# Altium schematic symbol library TI Voltage Controlled Oscillator.SchLib: 35 symbols
Pins are listed as number, name and electrical type; pins without a type are passive.

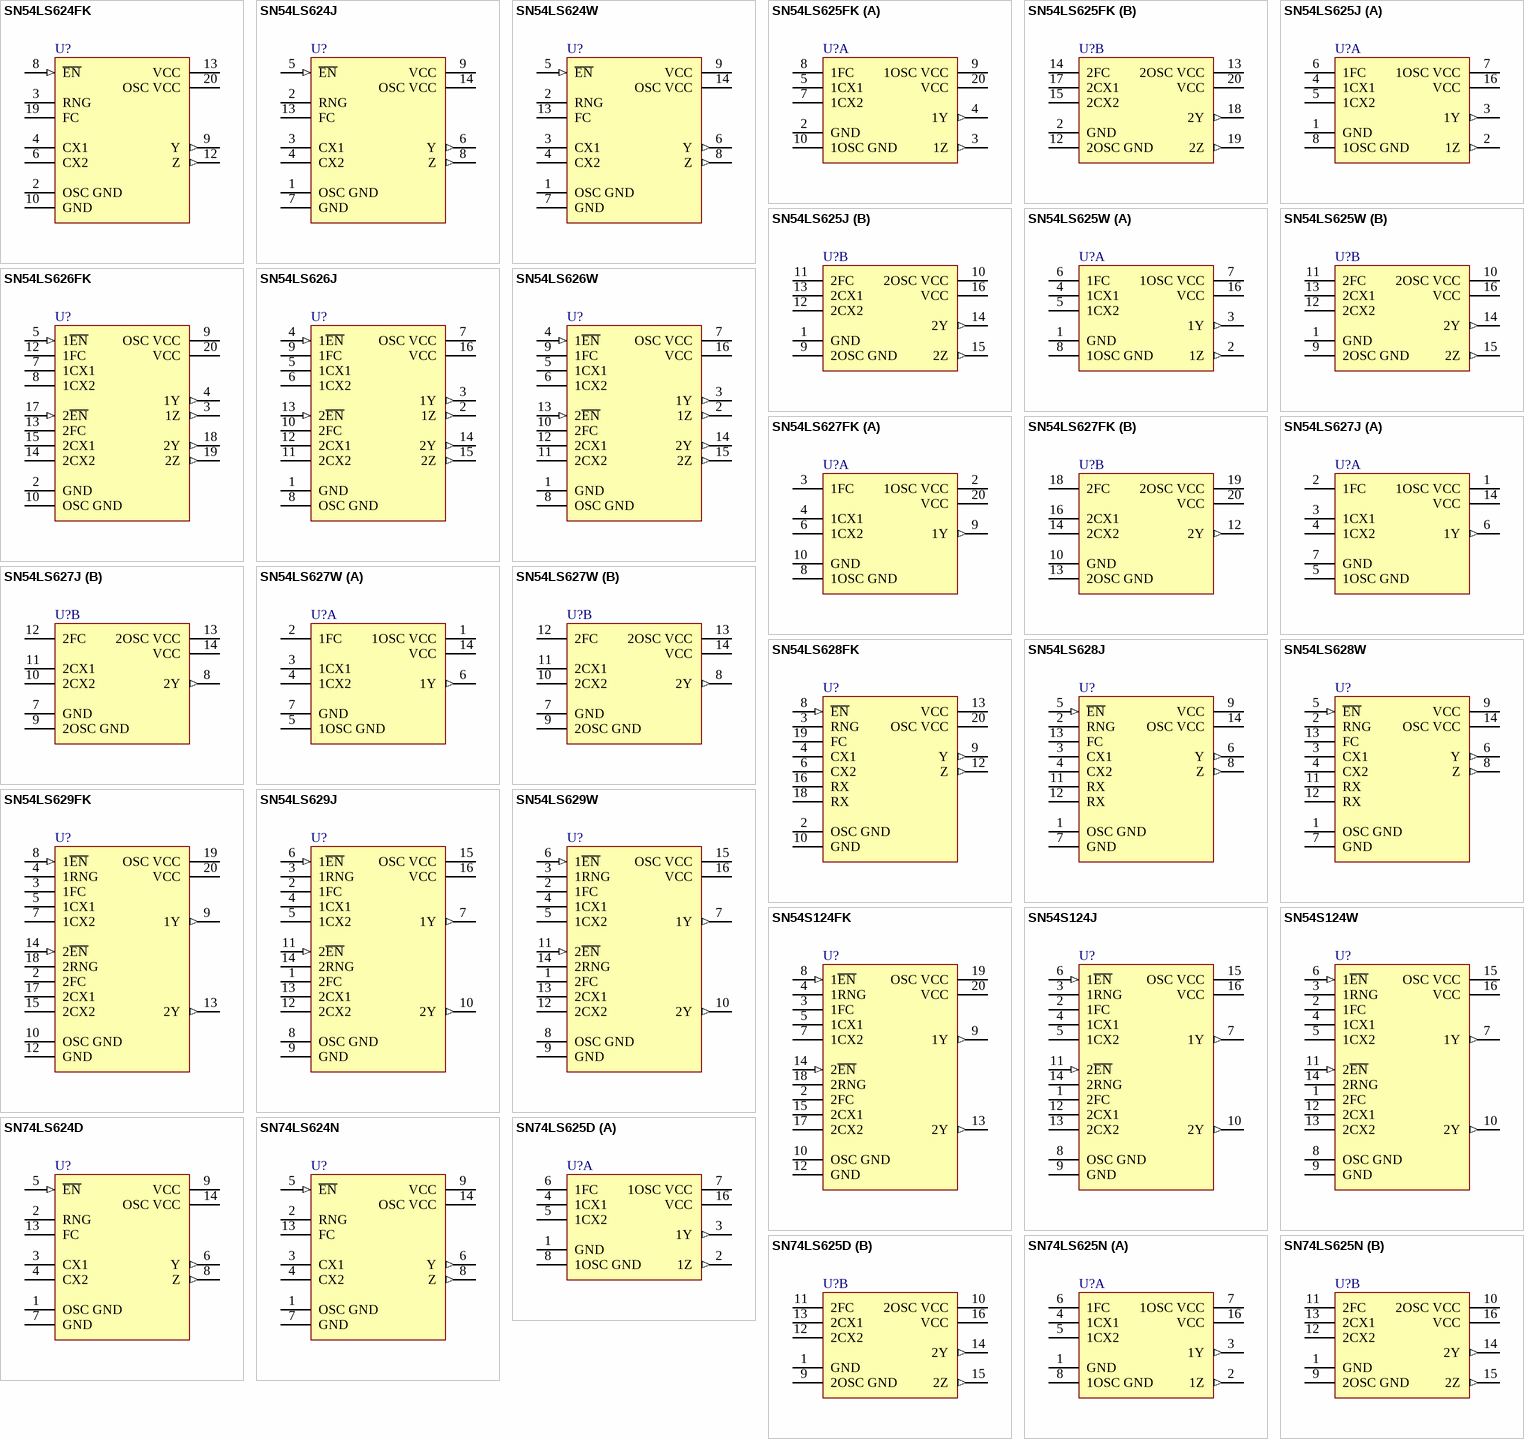
[diagram p0: symbols SN54LS624FK to SN74LS625N]

## SN54LS624FK
designator U?
Voltage-Controlled Oscillator; Note: Pins No 1, 5, 7,11 and 14-18 are NC (not internally connected) pins.; Published: 8-Jun-2000; LatestRevisionDate: 17-Jul-2002; LatestRevisionNote: Re-released for DXP Platform.; DatasheetVersion: Mar-1988; PackageVersion: 1998; PackageReference: FK020C; Publisher: Altium Limited; PackageDescription: Leadless Chip Carrier; 20 Terminals; Body 8.9 x 8.9 mm; ComponentLink1Description: Manufacturer Link; ComponentLink1URL: http://www.ti.com/; ComponentLink2Description: Datasheet; ComponentLink2URL: http://www-s.ti.com/sc/ds/sn74ls624.pdf
footprint FK020C (Leadless Chip Carrier; 20 Terminals; Body 8.9 x 8.9 mm)
signal-integrity model SN54LS624FK
pins: 2 OSC GND (power), 3 RNG, 4 CX1, 6 CX2, 8 ~{EN} (in), 9 Y (out), 10 GND (power), 12 Z (out), 13 VCC (power), 19 FC, 20 OSC VCC (power)

## SN54LS624J
designator U?
Voltage-Controlled Oscillator; Note: Pins 10, 11 and 12 are NC (not internally connected) pins.; Published: 8-Jun-2000; LatestRevisionDate: 04-Mar-2005; LatestRevisionNote: Stylized 3D Model Added.; DatasheetVersion: Mar-1988; PackageVersion: Jun-1999; PackageReference: J014C; Publisher: Altium Limited; PackageDescription: DIP; 14 Leads; Row Spacing 7.62 mm; Pitch 2.54 mm; ComponentLink1Description: Manufacturer Link; ComponentLink1URL: http://www.ti.com/; ComponentLink2Description: Datasheet; ComponentLink2URL: http://www-s.ti.com/sc/ds/sn74ls624.pdf
footprint J014C (DIP; 14 Leads; Row Spacing 7.62 mm; Pitch 2.54 mm)
3D model J014C (DIP; 14 Leads; Row Spacing 7.62 mm; Pitch 2.54 mm)
signal-integrity model SN54LS624J
pins: 1 OSC GND (power), 2 RNG, 3 CX1, 4 CX2, 5 ~{EN} (in), 6 Y (out), 7 GND (power), 8 Z (out), 9 VCC (power), 13 FC, 14 OSC VCC (power)

## SN54LS624W
designator U?
Voltage-Controlled Oscillator; Note: Pins 10, 11 and 12 are NC (not internally connected) pins.; Published: 8-Jun-2000; LatestRevisionDate: 04-Mar-2005; LatestRevisionNote: Stylized 3D Model Added.; DatasheetVersion: Mar-1988; PackageVersion: Jan-1995; PackageReference: W014; Publisher: Altium Limited; PackageDescription: DFP; 14 Leads; Body 9.9 x 6.6 mm (LxW max); Pitch 1.27 mm; Code_JEDEC: MO-092-AB; ComponentLink1Description: Manufacturer Link; ComponentLink1URL: http://www.ti.com/; ComponentLink2Description: Datasheet; ComponentLink2URL: http://www-s.ti.com/sc/ds/sn74ls624.pdf
footprint W014 (DFP; 14 Leads; Body 9.9 x 6.6 mm (LxW max); Pitch 1.27 mm)
3D model W014 (DFP; 14 Leads; Body 9.9 x 6.6 mm (LxW max); Pitch 1.27 mm)
signal-integrity model SN54LS624W
pins: 1 OSC GND (power), 2 RNG, 3 CX1, 4 CX2, 5 ~{EN} (in), 6 Y (out), 7 GND (power), 8 Z (out), 9 VCC (power), 13 FC, 14 OSC VCC (power)

## SN54LS625FK
designator U?
Voltage-Controlled Oscillator; Note: Pins No 1,6,11 and 16 are NC (not internally connected) pins.; Published: 8-Jun-2000; LatestRevisionDate: 17-Jul-2002; LatestRevisionNote: Re-released for DXP Platform.; DatasheetVersion: Mar-1988; PackageVersion: 1998; PackageReference: FK020C; Publisher: Altium Limited; PackageDescription: Leadless Chip Carrier; 20 Terminals; Body 8.9 x 8.9 mm; ComponentLink1Description: Manufacturer Link; ComponentLink1URL: http://www.ti.com/; ComponentLink2Description: Datasheet; ComponentLink2URL: http://www-s.ti.com/sc/ds/sn74ls625.pdf
footprint FK020C (Leadless Chip Carrier; 20 Terminals; Body 8.9 x 8.9 mm)
signal-integrity model SN54LS625FK
pins on every part: 2 GND (power), 20 VCC (power)
part A pins: 3 1Z (out), 4 1Y (out), 5 1CX1, 7 1CX2, 8 1FC, 9 1OSC VCC (power), 10 1OSC GND (power)
part B pins: 12 2OSC GND (power), 13 2OSC VCC (power), 14 2FC, 15 2CX2, 17 2CX1, 18 2Y (out), 19 2Z (out)

## SN54LS625J
designator U?
Voltage-Controlled Oscillator; Published: 8-Jun-2000; LatestRevisionDate: 04-Mar-2005; LatestRevisionNote: Stylized 3D Model Added.; DatasheetVersion: Mar-1988; PackageVersion: Jun-1999; PackageReference: J016C; Publisher: Altium Limited; PackageDescription: DIP; 16 Leads; Row Spacing 7.62 mm; Pitch 2.54 mm; ComponentLink1Description: Manufacturer Link; ComponentLink1URL: http://www.ti.com/; ComponentLink2Description: Datasheet; ComponentLink2URL: http://www-s.ti.com/sc/ds/sn74ls625.pdf
footprint J016C (DIP; 16 Leads; Row Spacing 7.62 mm; Pitch 2.54 mm)
3D model J016C (DIP; 16 Leads; Row Spacing 7.62 mm; Pitch 2.54 mm)
signal-integrity model SN54LS625J
pins on every part: 1 GND (power), 16 VCC (power)
part A pins: 2 1Z (out), 3 1Y (out), 4 1CX1, 5 1CX2, 6 1FC, 7 1OSC VCC (power), 8 1OSC GND (power)
part B pins: 9 2OSC GND (power), 10 2OSC VCC (power), 11 2FC, 12 2CX2, 13 2CX1, 14 2Y (out), 15 2Z (out)

## SN54LS625W
designator U?
Voltage-Controlled Oscillator; Published: 8-Jun-2000; LatestRevisionDate: 04-Mar-2005; LatestRevisionNote: Stylized 3D Model Added.; DatasheetVersion: Mar-1988; PackageVersion: Jan-1995; PackageReference: W016; Publisher: Altium Limited; PackageDescription: DFP; 16 Leads; Body 10.9 x 7.2 mm (LxW max); Pitch 1.27 mm; Code_JEDEC: MO-092-AC; ComponentLink1Description: Manufacturer Link; ComponentLink1URL: http://www.ti.com/; ComponentLink2Description: Datasheet; ComponentLink2URL: http://www-s.ti.com/sc/ds/sn74ls625.pdf
footprint W016 (DFP; 16 Leads; Body 10.9 x 7.2 mm (LxW max); Pitch 1.27 mm)
3D model W016 (DFP; 16 Leads; Body 10.9 x 7.2 mm (LxW max); Pitch 1.27 mm)
signal-integrity model SN54LS625W
pins on every part: 1 GND (power), 16 VCC (power)
part A pins: 2 1Z (out), 3 1Y (out), 4 1CX1, 5 1CX2, 6 1FC, 7 1OSC VCC (power), 8 1OSC GND (power)
part B pins: 9 2OSC GND (power), 10 2OSC VCC (power), 11 2FC, 12 2CX2, 13 2CX1, 14 2Y (out), 15 2Z (out)

## SN54LS626FK
designator U?
Voltage-Controlled Oscillator; Note: Pins No 1,6,11 and 16 are NC (not internally connected) pins.; Published: 8-Jun-2000; LatestRevisionDate: 17-Jul-2002; LatestRevisionNote: Re-released for DXP Platform.; DatasheetVersion: Mar-1988; PackageVersion: 1998; PackageReference: FK020C; Publisher: Altium Limited; PackageDescription: Leadless Chip Carrier; 20 Terminals; Body 8.9 x 8.9 mm; ComponentLink1Description: Manufacturer Link; ComponentLink1URL: http://www.ti.com/; ComponentLink2Description: Datasheet; ComponentLink2URL: http://www-s.ti.com/sc/ds/sn74ls626.pdf
footprint FK020C (Leadless Chip Carrier; 20 Terminals; Body 8.9 x 8.9 mm)
signal-integrity model SN54LS626FK
pins: 2 GND (power), 3 1Z (out), 4 1Y (out), 5 1~{EN} (in), 7 1CX1, 8 1CX2, 9 OSC VCC (power), 10 OSC GND (power), 12 1FC, 13 2FC, 14 2CX2, 15 2CX1, 17 2~{EN} (in), 18 2Y (out), 19 2Z (out), 20 VCC (power)

## SN54LS626J
designator U?
Voltage-Controlled Oscillator; Published: 8-Jun-2000; LatestRevisionDate: 04-Mar-2005; LatestRevisionNote: Stylized 3D Model Added.; DatasheetVersion: Mar-1988; PackageVersion: Jun-1999; PackageReference: J016C; Publisher: Altium Limited; PackageDescription: DIP; 16 Leads; Row Spacing 7.62 mm; Pitch 2.54 mm; ComponentLink1Description: Manufacturer Link; ComponentLink1URL: http://www.ti.com/; ComponentLink2Description: Datasheet; ComponentLink2URL: http://www-s.ti.com/sc/ds/sn74ls626.pdf
footprint J016C (DIP; 16 Leads; Row Spacing 7.62 mm; Pitch 2.54 mm)
3D model J016C (DIP; 16 Leads; Row Spacing 7.62 mm; Pitch 2.54 mm)
signal-integrity model SN54LS626J
pins: 1 GND (power), 2 1Z (out), 3 1Y (out), 4 1~{EN} (in), 5 1CX1, 6 1CX2, 7 OSC VCC (power), 8 OSC GND (power), 9 1FC, 10 2FC, 11 2CX2, 12 2CX1, 13 2~{EN} (in), 14 2Y (out), 15 2Z (out), 16 VCC (power)

## SN54LS626W
designator U?
Voltage-Controlled Oscillator; Published: 8-Jun-2000; LatestRevisionDate: 04-Mar-2005; LatestRevisionNote: Stylized 3D Model Added.; DatasheetVersion: Mar-1988; PackageVersion: Jan-1995; PackageReference: W016; Publisher: Altium Limited; PackageDescription: DFP; 16 Leads; Body 10.9 x 7.2 mm (LxW max); Pitch 1.27 mm; Code_JEDEC: MO-092-AC; ComponentLink1Description: Manufacturer Link; ComponentLink1URL: http://www.ti.com/; ComponentLink2Description: Datasheet; ComponentLink2URL: http://www-s.ti.com/sc/ds/sn74ls626.pdf
footprint W016 (DFP; 16 Leads; Body 10.9 x 7.2 mm (LxW max); Pitch 1.27 mm)
3D model W016 (DFP; 16 Leads; Body 10.9 x 7.2 mm (LxW max); Pitch 1.27 mm)
signal-integrity model SN54LS626W
pins: 1 GND (power), 2 1Z (out), 3 1Y (out), 4 1~{EN} (in), 5 1CX1, 6 1CX2, 7 OSC VCC (power), 8 OSC GND (power), 9 1FC, 10 2FC, 11 2CX2, 12 2CX1, 13 2~{EN} (in), 14 2Y (out), 15 2Z (out), 16 VCC (power)

## SN54LS627FK
designator U?
Voltage-Controlled Oscillator; Note: Pins No 1,5,7,11, 15 and 17are NC (not internally connected) pins.; Published: 8-Jun-2000; LatestRevisionDate: 17-Jul-2002; LatestRevisionNote: Re-released for DXP Platform.; DatasheetVersion: Mar-1988; PackageVersion: 1998; PackageReference: FK020C; Publisher: Altium Limited; PackageDescription: Leadless Chip Carrier; 20 Terminals; Body 8.9 x 8.9 mm; ComponentLink1Description: Manufacturer Link; ComponentLink1URL: http://www.ti.com/; ComponentLink2Description: Datasheet; ComponentLink2URL: http://www-s.ti.com/sc/ds/sn74ls627.pdf
footprint FK020C (Leadless Chip Carrier; 20 Terminals; Body 8.9 x 8.9 mm)
signal-integrity model SN54LS627FK
pins on every part: 10 GND (power), 20 VCC (power)
part A pins: 2 1OSC VCC (power), 3 1FC, 4 1CX1, 6 1CX2, 8 1OSC GND (power), 9 1Y (out)
part B pins: 12 2Y (out), 13 2OSC GND (power), 14 2CX2, 16 2CX1, 18 2FC, 19 2OSC VCC (power)

## SN54LS627J
designator U?
Voltage-Controlled Oscillator; Published: 8-Jun-2000; LatestRevisionDate: 04-Mar-2005; LatestRevisionNote: Stylized 3D Model Added.; DatasheetVersion: Mar-1988; PackageVersion: Jun-1999; PackageReference: J014C; Publisher: Altium Limited; PackageDescription: DIP; 14 Leads; Row Spacing 7.62 mm; Pitch 2.54 mm; ComponentLink1Description: Manufacturer Link; ComponentLink1URL: http://www.ti.com/; ComponentLink2Description: Datasheet; ComponentLink2URL: http://www-s.ti.com/sc/ds/sn74ls627.pdf
footprint J014C (DIP; 14 Leads; Row Spacing 7.62 mm; Pitch 2.54 mm)
3D model J014C (DIP; 14 Leads; Row Spacing 7.62 mm; Pitch 2.54 mm)
signal-integrity model SN54LS627J
pins on every part: 7 GND (power), 14 VCC (power)
part A pins: 1 1OSC VCC (power), 2 1FC, 3 1CX1, 4 1CX2, 5 1OSC GND (power), 6 1Y (out)
part B pins: 8 2Y (out), 9 2OSC GND (power), 10 2CX2, 11 2CX1, 12 2FC, 13 2OSC VCC (power)

## SN54LS627W
designator U?
Voltage-Controlled Oscillator; Published: 8-Jun-2000; LatestRevisionDate: 04-Mar-2005; LatestRevisionNote: Stylized 3D Model Added.; DatasheetVersion: Mar-1988; PackageVersion: Jan-1995; PackageReference: W014; Publisher: Altium Limited; PackageDescription: DFP; 14 Leads; Body 9.9 x 6.6 mm (LxW max); Pitch 1.27 mm; Code_JEDEC: MO-092-AB; ComponentLink1Description: Manufacturer Link; ComponentLink1URL: http://www.ti.com/; ComponentLink2Description: Datasheet; ComponentLink2URL: http://www-s.ti.com/sc/ds/sn74ls627.pdf
footprint W014 (DFP; 14 Leads; Body 9.9 x 6.6 mm (LxW max); Pitch 1.27 mm)
3D model W014 (DFP; 14 Leads; Body 9.9 x 6.6 mm (LxW max); Pitch 1.27 mm)
signal-integrity model SN54LS627W
pins on every part: 7 GND (power), 14 VCC (power)
part A pins: 1 1OSC VCC (power), 2 1FC, 3 1CX1, 4 1CX2, 5 1OSC GND (power), 6 1Y (out)
part B pins: 8 2Y (out), 9 2OSC GND (power), 10 2CX2, 11 2CX1, 12 2FC, 13 2OSC VCC (power)

## SN54LS628FK
designator U?
Voltage-Controlled Oscillator; Note: Pins No 1,5,7,11,14,15 and 17are NC (not internally connected) pins.; Published: 8-Jun-2000; LatestRevisionDate: 17-Jul-2002; LatestRevisionNote: Re-released for DXP Platform.; DatasheetVersion: Mar-1988; PackageVersion: 1998; PackageReference: FK020C; Publisher: Altium Limited; PackageDescription: Leadless Chip Carrier; 20 Terminals; Body 8.9 x 8.9 mm; ComponentLink1Description: Manufacturer Link; ComponentLink1URL: http://www.ti.com/; ComponentLink2Description: Datasheet; ComponentLink2URL: http://www-s.ti.com/sc/ds/sn54ls628.pdf
footprint FK020C (Leadless Chip Carrier; 20 Terminals; Body 8.9 x 8.9 mm)
signal-integrity model SN54LS628FK
pins: 2 OSC GND (power), 3 RNG, 4 CX1, 6 CX2, 8 ~{EN} (in), 9 Y (out), 10 GND (power), 12 Z (out), 13 VCC (power), 16 RX, 18 RX, 19 FC, 20 OSC VCC (power)

## SN54LS628J
designator U?
Voltage-Controlled Oscillator; Published: 8-Jun-2000; LatestRevisionDate: 04-Mar-2005; LatestRevisionNote: Stylized 3D Model Added.; DatasheetVersion: Mar-1988; PackageVersion: Jun-1999; PackageReference: J014C; Publisher: Altium Limited; PackageDescription: DIP; 14 Leads; Row Spacing 7.62 mm; Pitch 2.54 mm; ComponentLink1Description: Manufacturer Link; ComponentLink1URL: http://www.ti.com/; ComponentLink2Description: Datasheet; ComponentLink2URL: http://www-s.ti.com/sc/ds/sn54ls628.pdf
footprint J014C (DIP; 14 Leads; Row Spacing 7.62 mm; Pitch 2.54 mm)
3D model J014C (DIP; 14 Leads; Row Spacing 7.62 mm; Pitch 2.54 mm)
signal-integrity model SN54LS628J
pins: 1 OSC GND (power), 2 RNG, 3 CX1, 4 CX2, 5 ~{EN} (in), 6 Y (out), 7 GND (power), 8 Z (out), 9 VCC (power), 11 RX, 12 RX, 13 FC, 14 OSC VCC (power)

## SN54LS628W
designator U?
Voltage-Controlled Oscillator; Published: 8-Jun-2000; LatestRevisionDate: 04-Mar-2005; LatestRevisionNote: Stylized 3D Model Added.; DatasheetVersion: Mar-1988; PackageVersion: Jan-1995; PackageReference: W014; Publisher: Altium Limited; PackageDescription: DFP; 14 Leads; Body 9.9 x 6.6 mm (LxW max); Pitch 1.27 mm; Code_JEDEC: MO-092-AB; ComponentLink1Description: Manufacturer Link; ComponentLink1URL: http://www.ti.com/; ComponentLink2Description: Datasheet; ComponentLink2URL: http://www-s.ti.com/sc/ds/sn54ls628.pdf
footprint W014 (DFP; 14 Leads; Body 9.9 x 6.6 mm (LxW max); Pitch 1.27 mm)
3D model W014 (DFP; 14 Leads; Body 9.9 x 6.6 mm (LxW max); Pitch 1.27 mm)
signal-integrity model SN54LS628W
pins: 1 OSC GND (power), 2 RNG, 3 CX1, 4 CX2, 5 ~{EN} (in), 6 Y (out), 7 GND (power), 8 Z (out), 9 VCC (power), 11 RX, 12 RX, 13 FC, 14 OSC VCC (power)

## SN54LS629FK
designator U?
Voltage-Controlled Oscillator; Note: Pins No 1, 6, 11 and 16 are NC (not internally connected) pins.; Published: 8-Jun-2000; LatestRevisionDate: 17-Jul-2002; LatestRevisionNote: Re-released for DXP Platform.; DatasheetVersion: Mar-1988; PackageVersion: 1998; PackageReference: FK020C; Publisher: Altium Limited; PackageDescription: Leadless Chip Carrier; 20 Terminals; Body 8.9 x 8.9 mm; ComponentLink1Description: Manufacturer Link; ComponentLink1URL: http://www.ti.com/; ComponentLink2Description: Datasheet; ComponentLink2URL: http://www-s.ti.com/sc/ds/sn54ls629.pdf
footprint FK020C (Leadless Chip Carrier; 20 Terminals; Body 8.9 x 8.9 mm)
signal-integrity model SN54LS629FK
pins: 2 2FC, 3 1FC, 4 1RNG, 5 1CX1, 7 1CX2, 8 1~{EN} (in), 9 1Y (out), 10 OSC GND (power), 12 GND (power), 13 2Y (out), 14 2~{EN} (in), 15 2CX2, 17 2CX1, 18 2RNG, 19 OSC VCC (power), 20 VCC (power)

## SN54LS629J
designator U?
Voltage-Controlled Oscillator; Published: 8-Jun-2000; LatestRevisionDate: 04-Mar-2005; LatestRevisionNote: Stylized 3D Model Added.; DatasheetVersion: Mar-1988; PackageVersion: Jun-1999; PackageReference: J016C; Publisher: Altium Limited; PackageDescription: DIP; 16 Leads; Row Spacing 7.62 mm; Pitch 2.54 mm; ComponentLink1Description: Manufacturer Link; ComponentLink1URL: http://www.ti.com/; ComponentLink2Description: Datasheet; ComponentLink2URL: http://www-s.ti.com/sc/ds/sn54ls629.pdf
footprint J016C (DIP; 16 Leads; Row Spacing 7.62 mm; Pitch 2.54 mm)
3D model J016C (DIP; 16 Leads; Row Spacing 7.62 mm; Pitch 2.54 mm)
signal-integrity model SN54LS629J
pins: 1 2FC, 2 1FC, 3 1RNG, 4 1CX1, 5 1CX2, 6 1~{EN} (in), 7 1Y (out), 8 OSC GND (power), 9 GND (power), 10 2Y (out), 11 2~{EN} (in), 12 2CX2, 13 2CX1, 14 2RNG, 15 OSC VCC (power), 16 VCC (power)

## SN54LS629W
designator U?
Voltage-Controlled Oscillator; Published: 8-Jun-2000; LatestRevisionDate: 04-Mar-2005; LatestRevisionNote: Stylized 3D Model Added.; DatasheetVersion: Mar-1988; PackageVersion: Jan-1995; PackageReference: W016; Publisher: Altium Limited; PackageDescription: DFP; 16 Leads; Body 10.9 x 7.2 mm (LxW max); Pitch 1.27 mm; Code_JEDEC: MO-092-AC; ComponentLink1Description: Manufacturer Link; ComponentLink1URL: http://www.ti.com/; ComponentLink2Description: Datasheet; ComponentLink2URL: http://www-s.ti.com/sc/ds/sn54ls629.pdf
footprint W016 (DFP; 16 Leads; Body 10.9 x 7.2 mm (LxW max); Pitch 1.27 mm)
3D model W016 (DFP; 16 Leads; Body 10.9 x 7.2 mm (LxW max); Pitch 1.27 mm)
signal-integrity model SN54LS629W
pins: 1 2FC, 2 1FC, 3 1RNG, 4 1CX1, 5 1CX2, 6 1~{EN} (in), 7 1Y (out), 8 OSC GND (power), 9 GND (power), 10 2Y (out), 11 2~{EN} (in), 12 2CX2, 13 2CX1, 14 2RNG, 15 OSC VCC (power), 16 VCC (power)

## SN54S124FK
designator U?
Dual Voltage-Controlled Oscillator; Note: Pins 1, 6, 11 and 16 are NC (not internally connected) pins.; Published: 8-Jun-2000; LatestRevisionDate: 17-Jul-2002; LatestRevisionNote: Re-released for DXP Platform.; DatasheetVersion: Mar-1988; PackageVersion: 1998; PackageReference: FK020C; Publisher: Altium Limited; PackageDescription: Leadless Chip Carrier; 20 Terminals; Body 8.9 x 8.9 mm; ComponentLink1Description: Manufacturer Link; ComponentLink1URL: http://www.ti.com/; ComponentLink2Description: Datasheet; ComponentLink2URL: http://www-s.ti.com/sc/ds/sn54s124.pdf
footprint FK020C (Leadless Chip Carrier; 20 Terminals; Body 8.9 x 8.9 mm)
signal-integrity model SN54S124FK
pins: 2 2FC, 3 1FC, 4 1RNG, 5 1CX1, 7 1CX2, 8 1~{EN} (in), 9 1Y (out), 10 OSC GND (power), 12 GND (power), 13 2Y (out), 14 2~{EN} (in), 15 2CX1, 17 2CX2, 18 2RNG, 19 OSC VCC (power), 20 VCC (power)

## SN54S124J
designator U?
Dual Voltage-Controlled Oscillator; Published: 8-Jun-2000; LatestRevisionDate: 04-Mar-2005; LatestRevisionNote: Stylized 3D Model Added.; DatasheetVersion: Mar-1988; PackageVersion: Jun-1999; PackageReference: J016C; Publisher: Altium Limited; PackageDescription: DIP; 16 Leads; Row Spacing 7.62 mm; Pitch 2.54 mm; ComponentLink1Description: Manufacturer Link; ComponentLink1URL: http://www.ti.com/; ComponentLink2Description: Datasheet; ComponentLink2URL: http://www-s.ti.com/sc/ds/sn54s124.pdf
footprint J016C (DIP; 16 Leads; Row Spacing 7.62 mm; Pitch 2.54 mm)
3D model J016C (DIP; 16 Leads; Row Spacing 7.62 mm; Pitch 2.54 mm)
signal-integrity model SN54S124J
pins: 1 2FC, 2 1FC, 3 1RNG, 4 1CX1, 5 1CX2, 6 1~{EN} (in), 7 1Y (out), 8 OSC GND (power), 9 GND (power), 10 2Y (out), 11 2~{EN} (in), 12 2CX1, 13 2CX2, 14 2RNG, 15 OSC VCC (power), 16 VCC (power)

## SN54S124W
designator U?
Dual Voltage-Controlled Oscillator; Published: 8-Jun-2000; LatestRevisionDate: 04-Mar-2005; LatestRevisionNote: Stylized 3D Model Added.; DatasheetVersion: Mar-1988; PackageVersion: Jan-1995; PackageReference: W016; Publisher: Altium Limited; PackageDescription: DFP; 16 Leads; Body 10.9 x 7.2 mm (LxW max); Pitch 1.27 mm; Code_JEDEC: MO-092-AC; ComponentLink1Description: Manufacturer Link; ComponentLink1URL: http://www.ti.com/; ComponentLink2Description: Datasheet; ComponentLink2URL: http://www-s.ti.com/sc/ds/sn54s124.pdf
footprint W016 (DFP; 16 Leads; Body 10.9 x 7.2 mm (LxW max); Pitch 1.27 mm)
3D model W016 (DFP; 16 Leads; Body 10.9 x 7.2 mm (LxW max); Pitch 1.27 mm)
signal-integrity model SN54S124W
pins: 1 2FC, 2 1FC, 3 1RNG, 4 1CX1, 5 1CX2, 6 1~{EN} (in), 7 1Y (out), 8 OSC GND (power), 9 GND (power), 10 2Y (out), 11 2~{EN} (in), 12 2CX1, 13 2CX2, 14 2RNG, 15 OSC VCC (power), 16 VCC (power)

## SN74LS624D
designator U?
Voltage-Controlled Oscillator; Note: Pins 10, 11 and 12 are NC (not internally connected) pins.; Published: 8-Jun-2000; LatestRevisionDate: 13-Apr-2006; LatestRevisionNote: IPC-7351 Footprint Added.; DatasheetVersion: Mar-1988; PackageVersion: Jan-1998; PackageReference: D014; Publisher: Altium Limited; PackageDescription: 14-Pin Small Outline Integrated Circuit 1.27 mm Pitch; Code_IPC: SOIC127P600-14; ComponentLink1Description: Manufacturer Link; ComponentLink1URL: http://www.ti.com/; ComponentLink2Description: Datasheet; ComponentLink2URL: http://www-s.ti.com/sc/ds/sn74ls624.pdf
footprint D014_N (SOIC, 14-Leads, Body 8.7x3.9mm, Pitch 1.27mm, IPC Medium Density)
footprint D014_L (SOIC, 14-Leads, Body 8.7x3.9mm, Pitch 1.27mm, IPC High Density)
footprint D014_M (SOIC, 14-Leads, Body 8.7x3.9mm, Pitch 1.27mm, IPC Low Density)
3D model D014 (14-Pin Small Outline Integrated Circuit 1.27 mm Pitch)
signal-integrity model SN74LS624D
pins: 1 OSC GND (power), 2 RNG, 3 CX1, 4 CX2, 5 ~{EN} (in), 6 Y (out), 7 GND (power), 8 Z (out), 9 VCC (power), 13 FC, 14 OSC VCC (power)

## SN74LS624N
designator U?
Voltage-Controlled Oscillator; Note: Pins 10, 11 and 12 are NC (not internally connected) pins.; Published: 8-Jun-2000; LatestRevisionDate: 04-Mar-2005; LatestRevisionNote: Stylized 3D Model Added.; DatasheetVersion: Mar-1988; PackageVersion: Oct-1995; PackageReference: N014C; Publisher: Altium Limited; PackageDescription: DIP; 14 Leads; Row Spacing 7.62 mm; Pitch 2.54 mm; ComponentLink1Description: Manufacturer Link; ComponentLink1URL: http://www.ti.com/; ComponentLink2Description: Datasheet; ComponentLink2URL: http://www-s.ti.com/sc/ds/sn74ls624.pdf
footprint N014C (DIP; 14 Leads; Row Spacing 7.62 mm; Pitch 2.54 mm)
3D model N014C (DIP; 14 Leads; Row Spacing 7.62 mm; Pitch 2.54 mm)
signal-integrity model SN74LS624N
pins: 1 OSC GND (power), 2 RNG, 3 CX1, 4 CX2, 5 ~{EN} (in), 6 Y (out), 7 GND (power), 8 Z (out), 9 VCC (power), 13 FC, 14 OSC VCC (power)

## SN74LS625D
designator U?
Voltage-Controlled Oscillator; Published: 8-Jun-2000; LatestRevisionDate: 13-Apr-2006; LatestRevisionNote: IPC-7351 Footprint Added.; DatasheetVersion: Mar-1988; PackageVersion: Jan-1998; PackageReference: D016; Publisher: Altium Limited; PackageDescription: 16-Pin Small Outline Integrated Circuit 1.27 mm Pitch; Code_IPC: SOIC127P600-16; ComponentLink1Description: Manufacturer Link; ComponentLink1URL: http://www.ti.com/; ComponentLink2Description: Datasheet; ComponentLink2URL: http://www-s.ti.com/sc/ds/sn74ls625.pdf
footprint D016_N (SOIC, 16-Leads, Body 9.9x3.9mm, Pitch 1.27mm, IPC Medium Density)
footprint D016_L (SOIC, 16-Leads, Body 9.9x3.9mm, Pitch 1.27mm, IPC High Density)
footprint D016_M (SOIC, 16-Leads, Body 9.9x3.9mm, Pitch 1.27mm, IPC Low Density)
3D model D016 (16-Pin Small Outline Integrated Circuit 1.27 mm Pitch)
signal-integrity model SN74LS625D
pins on every part: 1 GND (power), 16 VCC (power)
part A pins: 2 1Z (out), 3 1Y (out), 4 1CX1, 5 1CX2, 6 1FC, 7 1OSC VCC (power), 8 1OSC GND (power)
part B pins: 9 2OSC GND (power), 10 2OSC VCC (power), 11 2FC, 12 2CX2, 13 2CX1, 14 2Y (out), 15 2Z (out)

## SN74LS625N
designator U?
Voltage-Controlled Oscillator; ComponentAvailability: Obsolete; Published: 8-Jun-2000; LatestRevisionDate: 04-Mar-2005; LatestRevisionNote: Stylized 3D Model Added.; DatasheetVersion: Mar-1988; PackageVersion: Oct-1995; PackageReference: N016C; Publisher: Altium Limited; PackageDescription: DIP; 16 Leads; Row Spacing 7.62 mm; Pitch 2.54 mm; Code_JEDEC: MS-001-BB; ComponentLink1Description: Manufacturer Link; ComponentLink1URL: http://www.ti.com/; ComponentLink2Description: Datasheet; ComponentLink2URL: http://www-s.ti.com/sc/ds/sn74ls625.pdf
footprint N016C (DIP; 16 Leads; Row Spacing 7.62 mm; Pitch 2.54 mm)
3D model N016C (DIP; 16 Leads; Row Spacing 7.62 mm; Pitch 2.54 mm)
signal-integrity model SN74LS625N
pins on every part: 1 GND (power), 16 VCC (power)
part A pins: 2 1Z (out), 3 1Y (out), 4 1CX1, 5 1CX2, 6 1FC, 7 1OSC VCC (power), 8 1OSC GND (power)
part B pins: 9 2OSC GND (power), 10 2OSC VCC (power), 11 2FC, 12 2CX2, 13 2CX1, 14 2Y (out), 15 2Z (out)

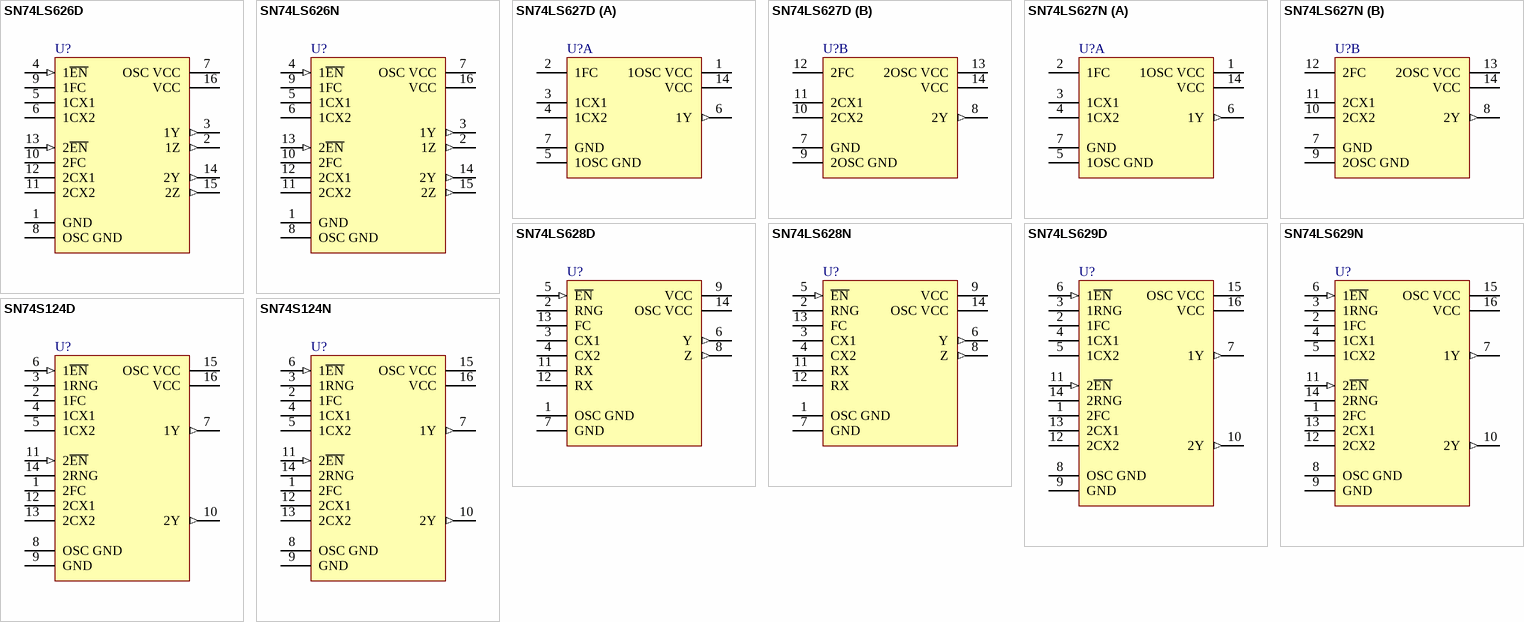
[diagram p1: symbols SN74LS626D to SN74S124N]

## SN74LS626D
designator U?
Voltage-Controlled Oscillator; ComponentAvailability: Obsolete; Published: 8-Jun-2000; LatestRevisionDate: 13-Apr-2006; LatestRevisionNote: IPC-7351 Footprint Added.; DatasheetVersion: Mar-1988; PackageVersion: Jan-1998; PackageReference: D016; Publisher: Altium Limited; PackageDescription: 16-Pin Small Outline Integrated Circuit 1.27 mm Pitch; Code_IPC: SOIC127P600-16; ComponentLink1Description: Manufacturer Link; ComponentLink1URL: http://www.ti.com/; ComponentLink2Description: Datasheet; ComponentLink2URL: http://www-s.ti.com/sc/ds/sn74ls626.pdf
footprint D016_N (SOIC, 16-Leads, Body 9.9x3.9mm, Pitch 1.27mm, IPC Medium Density)
footprint D016_L (SOIC, 16-Leads, Body 9.9x3.9mm, Pitch 1.27mm, IPC High Density)
footprint D016_M (SOIC, 16-Leads, Body 9.9x3.9mm, Pitch 1.27mm, IPC Low Density)
3D model D016 (16-Pin Small Outline Integrated Circuit 1.27 mm Pitch)
signal-integrity model SN74LS626D
pins: 1 GND (power), 2 1Z (out), 3 1Y (out), 4 1~{EN} (in), 5 1CX1, 6 1CX2, 7 OSC VCC (power), 8 OSC GND (power), 9 1FC, 10 2FC, 11 2CX2, 12 2CX1, 13 2~{EN} (in), 14 2Y (out), 15 2Z (out), 16 VCC (power)

## SN74LS626N
designator U?
Voltage-Controlled Oscillator; ComponentAvailability: Obsolete; Published: 8-Jun-2000; LatestRevisionDate: 04-Mar-2005; LatestRevisionNote: Stylized 3D Model Added.; DatasheetVersion: Mar-1988; PackageVersion: Oct-1995; PackageReference: N016C; Publisher: Altium Limited; PackageDescription: DIP; 16 Leads; Row Spacing 7.62 mm; Pitch 2.54 mm; Code_JEDEC: MS-001-BB; ComponentLink1Description: Manufacturer Link; ComponentLink1URL: http://www.ti.com/; ComponentLink2Description: Datasheet; ComponentLink2URL: http://www-s.ti.com/sc/ds/sn74ls626.pdf
footprint N016C (DIP; 16 Leads; Row Spacing 7.62 mm; Pitch 2.54 mm)
3D model N016C (DIP; 16 Leads; Row Spacing 7.62 mm; Pitch 2.54 mm)
signal-integrity model SN74LS626N
pins: 1 GND (power), 2 1Z (out), 3 1Y (out), 4 1~{EN} (in), 5 1CX1, 6 1CX2, 7 OSC VCC (power), 8 OSC GND (power), 9 1FC, 10 2FC, 11 2CX2, 12 2CX1, 13 2~{EN} (in), 14 2Y (out), 15 2Z (out), 16 VCC (power)

## SN74LS627D
designator U?
Voltage-Controlled Oscillator; Published: 8-Jun-2000; LatestRevisionDate: 13-Apr-2006; LatestRevisionNote: IPC-7351 Footprint Added.; DatasheetVersion: Mar-1988; PackageVersion: Jan-1998; PackageReference: D014; Publisher: Altium Limited; PackageDescription: 14-Pin Small Outline Integrated Circuit 1.27 mm Pitch; Code_IPC: SOIC127P600-14; ComponentLink1Description: Manufacturer Link; ComponentLink1URL: http://www.ti.com/; ComponentLink2Description: Datasheet; ComponentLink2URL: http://www-s.ti.com/sc/ds/sn74ls627.pdf
footprint D014_N (SOIC, 14-Leads, Body 8.7x3.9mm, Pitch 1.27mm, IPC Medium Density)
footprint D014_L (SOIC, 14-Leads, Body 8.7x3.9mm, Pitch 1.27mm, IPC High Density)
footprint D014_M (SOIC, 14-Leads, Body 8.7x3.9mm, Pitch 1.27mm, IPC Low Density)
3D model D014 (14-Pin Small Outline Integrated Circuit 1.27 mm Pitch)
signal-integrity model SN74LS627D
pins on every part: 7 GND (power), 14 VCC (power)
part A pins: 1 1OSC VCC (power), 2 1FC, 3 1CX1, 4 1CX2, 5 1OSC GND (power), 6 1Y (out)
part B pins: 8 2Y (out), 9 2OSC GND (power), 10 2CX2, 11 2CX1, 12 2FC, 13 2OSC VCC (power)

## SN74LS627N
designator U?
Voltage-Controlled Oscillator; ComponentAvailability: Obsolete; Published: 8-Jun-2000; LatestRevisionDate: 04-Mar-2005; LatestRevisionNote: Stylized 3D Model Added.; DatasheetVersion: Mar-1988; PackageVersion: Oct-1995; PackageReference: N014C; Publisher: Altium Limited; PackageDescription: DIP; 14 Leads; Row Spacing 7.62 mm; Pitch 2.54 mm; ComponentLink1Description: Manufacturer Link; ComponentLink1URL: http://www.ti.com/; ComponentLink2Description: Datasheet; ComponentLink2URL: http://www-s.ti.com/sc/ds/sn74ls627.pdf
footprint N014C (DIP; 14 Leads; Row Spacing 7.62 mm; Pitch 2.54 mm)
3D model N014C (DIP; 14 Leads; Row Spacing 7.62 mm; Pitch 2.54 mm)
signal-integrity model SN74LS627N
pins on every part: 7 GND (power), 14 VCC (power)
part A pins: 1 1OSC VCC (power), 2 1FC, 3 1CX1, 4 1CX2, 5 1OSC GND (power), 6 1Y (out)
part B pins: 8 2Y (out), 9 2OSC GND (power), 10 2CX2, 11 2CX1, 12 2FC, 13 2OSC VCC (power)

## SN74LS628D
designator U?
Voltage-Controlled Oscillator; Published: 8-Jun-2000; LatestRevisionDate: 13-Apr-2006; LatestRevisionNote: IPC-7351 Footprint Added.; DatasheetVersion: Mar-1988; PackageVersion: Jan-1998; PackageReference: D014; Publisher: Altium Limited; PackageDescription: 14-Pin Small Outline Integrated Circuit 1.27 mm Pitch; Code_IPC: SOIC127P600-14; ComponentLink1Description: Manufacturer Link; ComponentLink1URL: http://www.ti.com/; ComponentLink2Description: Datasheet; ComponentLink2URL: http://www-s.ti.com/sc/ds/sn74ls628.pdf
footprint D014_N (SOIC, 14-Leads, Body 8.7x3.9mm, Pitch 1.27mm, IPC Medium Density)
footprint D014_L (SOIC, 14-Leads, Body 8.7x3.9mm, Pitch 1.27mm, IPC High Density)
footprint D014_M (SOIC, 14-Leads, Body 8.7x3.9mm, Pitch 1.27mm, IPC Low Density)
3D model D014 (14-Pin Small Outline Integrated Circuit 1.27 mm Pitch)
signal-integrity model SN74LS628D
pins: 1 OSC GND (power), 2 RNG, 3 CX1, 4 CX2, 5 ~{EN} (in), 6 Y (out), 7 GND (power), 8 Z (out), 9 VCC (power), 11 RX, 12 RX, 13 FC, 14 OSC VCC (power)

## SN74LS628N
designator U?
Voltage-Controlled Oscillator; Published: 8-Jun-2000; LatestRevisionDate: 04-Mar-2005; LatestRevisionNote: Stylized 3D Model Added.; DatasheetVersion: Mar-1988; PackageVersion: Oct-1995; PackageReference: N014C; Publisher: Altium Limited; PackageDescription: DIP; 14 Leads; Row Spacing 7.62 mm; Pitch 2.54 mm; ComponentLink1Description: Manufacturer Link; ComponentLink1URL: http://www.ti.com/; ComponentLink2Description: Datasheet; ComponentLink2URL: http://www-s.ti.com/sc/ds/sn74ls628.pdf
footprint N014C (DIP; 14 Leads; Row Spacing 7.62 mm; Pitch 2.54 mm)
3D model N014C (DIP; 14 Leads; Row Spacing 7.62 mm; Pitch 2.54 mm)
signal-integrity model SN74LS628N
pins: 1 OSC GND (power), 2 RNG, 3 CX1, 4 CX2, 5 ~{EN} (in), 6 Y (out), 7 GND (power), 8 Z (out), 9 VCC (power), 11 RX, 12 RX, 13 FC, 14 OSC VCC (power)

## SN74LS629D
designator U?
Voltage-Controlled Oscillator; Published: 8-Jun-2000; LatestRevisionDate: 13-Apr-2006; LatestRevisionNote: IPC-7351 Footprint Added.; DatasheetVersion: Mar-1988; PackageVersion: Jan-1998; PackageReference: D016; Publisher: Altium Limited; PackageDescription: 16-Pin Small Outline Integrated Circuit 1.27 mm Pitch; Code_IPC: SOIC127P600-16; ComponentLink1Description: Manufacturer Link; ComponentLink1URL: http://www.ti.com/; ComponentLink2Description: Datasheet; ComponentLink2URL: http://www-s.ti.com/sc/ds/sn74ls629.pdf
footprint D016_N (SOIC, 16-Leads, Body 9.9x3.9mm, Pitch 1.27mm, IPC Medium Density)
footprint D016_L (SOIC, 16-Leads, Body 9.9x3.9mm, Pitch 1.27mm, IPC High Density)
footprint D016_M (SOIC, 16-Leads, Body 9.9x3.9mm, Pitch 1.27mm, IPC Low Density)
3D model D016 (16-Pin Small Outline Integrated Circuit 1.27 mm Pitch)
signal-integrity model SN74LS629D
pins: 1 2FC, 2 1FC, 3 1RNG, 4 1CX1, 5 1CX2, 6 1~{EN} (in), 7 1Y (out), 8 OSC GND (power), 9 GND (power), 10 2Y (out), 11 2~{EN} (in), 12 2CX2, 13 2CX1, 14 2RNG, 15 OSC VCC (power), 16 VCC (power)

## SN74LS629N
designator U?
Voltage-Controlled Oscillator; Published: 8-Jun-2000; LatestRevisionDate: 04-Mar-2005; LatestRevisionNote: Stylized 3D Model Added.; DatasheetVersion: Mar-1988; PackageVersion: Oct-1995; PackageReference: N016C; Publisher: Altium Limited; PackageDescription: DIP; 16 Leads; Row Spacing 7.62 mm; Pitch 2.54 mm; Code_JEDEC: MS-001-BB; ComponentLink1Description: Manufacturer Link; ComponentLink1URL: http://www.ti.com/; ComponentLink2Description: Datasheet; ComponentLink2URL: http://www-s.ti.com/sc/ds/sn74ls629.pdf
footprint N016C (DIP; 16 Leads; Row Spacing 7.62 mm; Pitch 2.54 mm)
3D model N016C (DIP; 16 Leads; Row Spacing 7.62 mm; Pitch 2.54 mm)
signal-integrity model SN74LS629N
pins: 1 2FC, 2 1FC, 3 1RNG, 4 1CX1, 5 1CX2, 6 1~{EN} (in), 7 1Y (out), 8 OSC GND (power), 9 GND (power), 10 2Y (out), 11 2~{EN} (in), 12 2CX2, 13 2CX1, 14 2RNG, 15 OSC VCC (power), 16 VCC (power)

## SN74S124D
designator U?
Dual Voltage-Controlled Oscillator; Published: 8-Jun-2000; LatestRevisionDate: 13-Apr-2006; LatestRevisionNote: IPC-7351 Footprint Added.; DatasheetVersion: Mar-1988; PackageVersion: Jan-1998; PackageReference: D016; Publisher: Altium Limited; PackageDescription: 16-Pin Small Outline Integrated Circuit 1.27 mm Pitch; Code_IPC: SOIC127P600-16; ComponentLink1Description: Manufacturer Link; ComponentLink1URL: http://www.ti.com/; ComponentLink2Description: Datasheet; ComponentLink2URL: http://www-s.ti.com/sc/ds/sn74s124.pdf
footprint D016_N (SOIC, 16-Leads, Body 9.9x3.9mm, Pitch 1.27mm, IPC Medium Density)
footprint D016_L (SOIC, 16-Leads, Body 9.9x3.9mm, Pitch 1.27mm, IPC High Density)
footprint D016_M (SOIC, 16-Leads, Body 9.9x3.9mm, Pitch 1.27mm, IPC Low Density)
3D model D016 (16-Pin Small Outline Integrated Circuit 1.27 mm Pitch)
signal-integrity model SN74S124D
pins: 1 2FC, 2 1FC, 3 1RNG, 4 1CX1, 5 1CX2, 6 1~{EN} (in), 7 1Y (out), 8 OSC GND (power), 9 GND (power), 10 2Y (out), 11 2~{EN} (in), 12 2CX1, 13 2CX2, 14 2RNG, 15 OSC VCC (power), 16 VCC (power)

## SN74S124N
designator U?
Dual Voltage-Controlled Oscillator; Published: 8-Jun-2000; LatestRevisionDate: 04-Mar-2005; LatestRevisionNote: Stylized 3D Model Added.; DatasheetVersion: Mar-1988; PackageVersion: Oct-1995; PackageReference: N016C; Publisher: Altium Limited; PackageDescription: DIP; 16 Leads; Row Spacing 7.62 mm; Pitch 2.54 mm; Code_JEDEC: MS-001-BB; ComponentLink1Description: Manufacturer Link; ComponentLink1URL: http://www.ti.com/; ComponentLink2Description: Datasheet; ComponentLink2URL: http://www-s.ti.com/sc/ds/sn74s124.pdf
footprint N016C (DIP; 16 Leads; Row Spacing 7.62 mm; Pitch 2.54 mm)
3D model N016C (DIP; 16 Leads; Row Spacing 7.62 mm; Pitch 2.54 mm)
signal-integrity model SN74S124N
pins: 1 2FC, 2 1FC, 3 1RNG, 4 1CX1, 5 1CX2, 6 1~{EN} (in), 7 1Y (out), 8 OSC GND (power), 9 GND (power), 10 2Y (out), 11 2~{EN} (in), 12 2CX1, 13 2CX2, 14 2RNG, 15 OSC VCC (power), 16 VCC (power)